# EAGLE library part FCC_915_SX1276_C1 (library NiceRF)
LoRa Transceiver Module - SX1276 - 915MHz Product Page <https://www.nicerf.com/product_193_273.html> Datasheet <https://www.nicerf.com/Upload/ueditor/files/2019-07-03/LORA1276-C1%20100mW%20long%20range%20Spread%20Spectrum%20modulation%20wireless%20transceiver%20module%20V2.0-ced11321-501c-47ae-b57d-fca91919d50a.pdf>
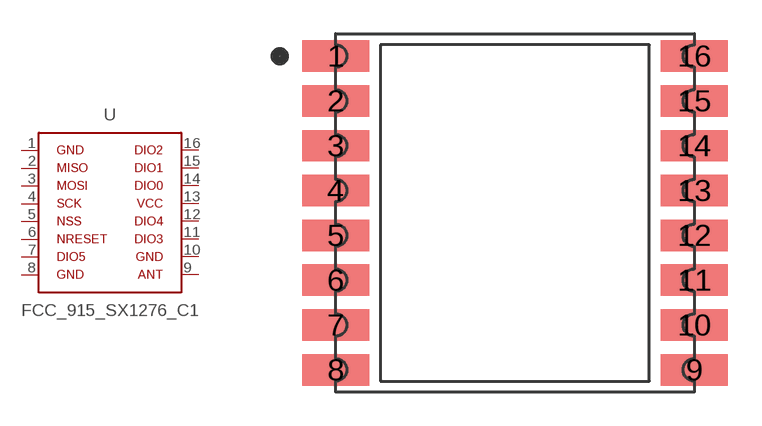
[diagram p0: symbol with the pads of NICERF_MODULE_01; footprint NICERF_MODULE_01]

Designator prefix U

## FCC_915_SX1276_C1  [NICERF_MODULE_01]
1  P$1  pwr
2  P$2
3  P$3
4  P$4
5  P$5
6  P$6
7  P$7
8  P$8  pwr
9  P$9
10  P$10  pwr
11  P$11
12  P$12
13  P$13  pwr
14  P$14
15  P$15
16  P$16

## Footprint NICERF_MODULE_01 (pad centres in mm)
smd 3 x 1.4: 1 0,0; 2 0,-2; 3 0,-4; 4 0,-6; 5 0,-8; 6 0,-10; 7 0,-12; 8 0,-14; 9 16,-14; 10 16,-12; 11 16,-10; 12 16,-8; 13 16,-6; 14 16,-4; 15 16,-2; 16 16,0